# EAGLE library part ELINK_EL-M150 (library template)
EL－M150 是一个高集成的无线路由模块。它不只是一个无线wifi 模块，它可以是一个 完整的路由器，只需通电，它就能工作的无线AP 模块，如果加上网络变压器和RJ45 网口， 它就是一台支持3 网口的无线路由器。 EL-M150 功耗非常低，单独工作时，只有0.36W，非常适合电池产品，它拥有150Mbps 的无线传输速率，多达20 个通用gpio.可以自由定义为输入输出。
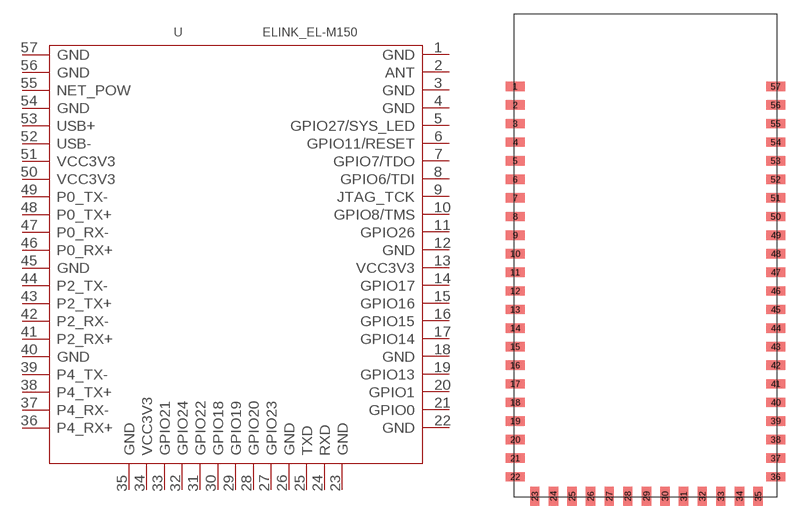
[diagram p34: symbol with the pads of 57P-52X28.2MM; footprint 57P-52X28.2MM]

Designator prefix U

## ELINK_EL-M150  [57P-52X28.2MM]
1  GND
2  ANT
3  GND
4  GND
5  GPIO27/SYS_LED
6  GPIO11/RESET
7  GPIO7/TDO
8  GPIO6/TDI
9  JTAG_TCK
10  GPIO8/TMS
11  GPIO26
12  GND
13  VCC3V3
14  GPIO17
15  GPIO16
16  GPIO15
17  GPIO14
18  GND
19  GPIO13
20  GPIO1
21  GPIO0
22  GND
23  GND
24  RXD
25  TXD
26  GND
27  GPIO23
28  GPIO20
29  GPIO19
30  GPIO18
31  GPIO22
32  GPIO24
33  GPIO21
34  VCC3V3
35  GND
36  P4_RX+
37  P4_RX-
38  P4_TX+
39  P4_TX-
40  GND
41  P2_RX+
42  P2_RX-
43  P2_TX+
44  P2_TX-
45  GND
46  P0_RX+
47  P0_RX-
48  P0_TX+
49  P0_TX-
50  VCC3V3
51  VCC3V3
52  USB-
53  USB+
54  GND
55  NET_POW
56  GND
57  GND

## Footprint 57P-52X28.2MM (pad centres in mm)
smd 2 x 1: 1 -14,18.2; 2 -14,16.2; 3 -14,14.2; 4 -14,12.2; 5 -14,10.2; 6 -14,8.2; 7 -14,6.2; 8 -14,4.2; 9 -14,2.2; 10 -14,0.2; 11 -14,-1.8; 12 -14,-3.8; 13 -14,-5.8; 14 -14,-7.8; 15 -14,-9.8; 16 -14,-11.8; 17 -14,-13.8; 18 -14,-15.8; 19 -14,-17.8; 20 -14,-19.8; 21 -14,-21.8; 22 -14,-23.8; 36 14,-23.8; 37 14,-21.8; 38 14,-19.8; 39 14,-17.8; 40 14,-15.8; 41 14,-13.8; 42 14,-11.8; 43 14,-9.8; 44 14,-7.8; 45 14,-5.8; 46 14,-3.8; 47 14,-1.8; 48 14,0.2; 49 14,2.2; 50 14,4.2; 51 14,6.2; 52 14,8.2; 53 14,10.2; 54 14,12.2; 55 14,14.2; 56 14,16.2; 57 14,18.2
smd 1 x 2: 23 -11.9,-25.9; 24 -9.9,-25.9; 25 -7.9,-25.9; 26 -5.9,-25.9; 27 -3.9,-25.9; 28 -1.9,-25.9; 29 0.1,-25.9; 30 2.1,-25.9; 31 4.1,-25.9; 32 6.1,-25.9; 33 8.1,-25.9; 34 10.1,-25.9; 35 12.1,-25.9